# Altium schematic symbol library STM3205P_SpecialLib.SchLib: 1 symbol
Pins are listed as number, name and electrical type; pins without a type are passive.

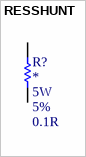
[diagram p0: symbol RESSHUNT]

## RESSHUNT
designator R?, comment value 0.1R  Power: 5W  Tolerance: 5%  (hidden comment: Chip Resistor)
Thick Film Chip Resistors with CECC Approval,  available with Established Reliability; LatestRevisionDate: 18-Agu-2025; PackageReference: RESSHUNT; Publisher: Lucas Moraes; PackageDescription: RESSHUNT; 2 Leads; Published: 18-Agu-2025; Manufacturer1: *; PartNumber1: *
footprint RESSHUNT
pins: 1, 2